# EAGLE library part OV965X (library fpc-24)
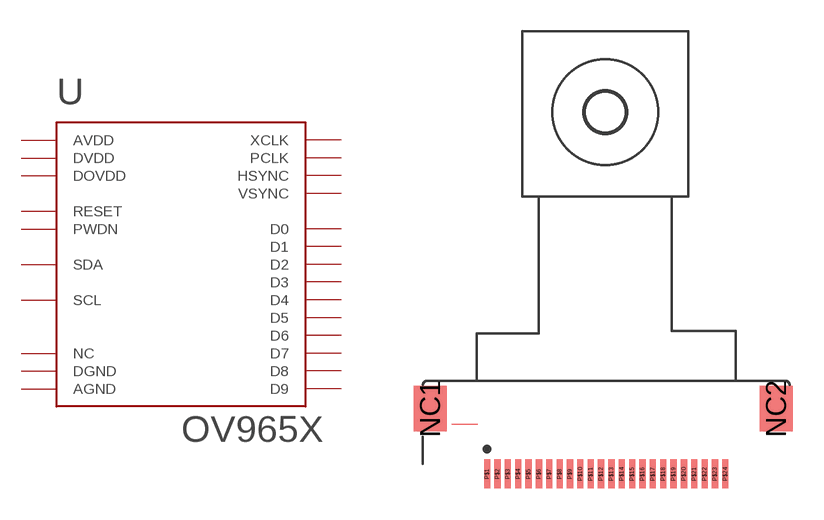
[diagram p0: symbol with the pads of OV965X; footprint OV965X]

Designator prefix -

## OV965X  [OV965X]
P$1  NC  nc
P$2  AGND  pwr
P$3  SDA
P$4  AVDD  pwr
P$5  SCL
P$6  RESET
P$7  VSYNC
P$8  PWDN
P$9  HSYNC
P$10  DVDD
P$11  DOVDD
P$12  D9
P$13  XCLK
P$14  D8
P$15  DGND
P$16  D7
P$17  PCLK
P$18  D6
P$19  D2
P$20  D5
P$21  D3
P$22  D4
P$23  D1
P$24  D0

## Footprint OV965X (pad centres in mm)
smd 1.6 x 2.2: NC1 -8.35,-8.35; NC2 8.35,-8.35
smd 0.3 x 1.4: P$1 -5.6,-11.5; P$2 -5.1,-11.5; P$3 -4.6,-11.5; P$4 -4.1,-11.5; P$5 -3.6,-11.5; P$6 -3.1,-11.5; P$7 -2.6,-11.5; P$8 -2.1,-11.5; P$9 -1.6,-11.5; P$10 -1.1,-11.5; P$11 -0.6,-11.5; P$12 -0.1,-11.5; P$13 0.4,-11.5; P$14 0.9,-11.5; P$15 1.4,-11.5; P$16 1.9,-11.5; P$17 2.4,-11.5; P$18 2.9,-11.5; P$19 3.4,-11.5; P$20 3.9,-11.5; P$21 4.4,-11.5; P$22 4.9,-11.5; P$23 5.4,-11.5; P$24 5.9,-11.5